# Altium footprint library R_D12p6_H6p9_S5_d0p5.PcbLib: 1 footprints
Each footprint in its own frame and in the unit in brackets; x right, y up, seen from the top. Pads: shape width x height; smd on the part's side, far side on the other; paste and mask are expansions set on the pad; w line width, h text height; cw(c..) or ccw(c..) is an arc to the next point about the centre after c.
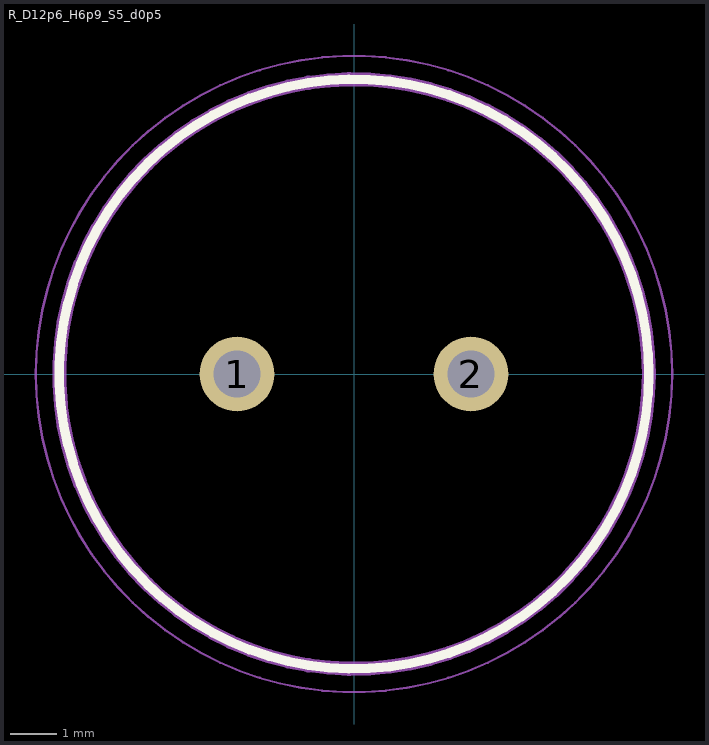
[diagram p0: the footprint, top view; thin cyan lines are the x and y axes]

## R_D12p6_H6p9_S5_d0p5 [mm] "Пьезоизлучатель PKM13EPY"
height 6.9
pads (2):
  round 1.6 hole 1: 1(-2.5,0) 2(2.5,0)
Top Overlay:
  circle w0.2: c0,0 r6.3
Board Shape:
  circle w0.3: c0,0 r6.3
Top Courtyard:
  circle w0.05: c0,0 r6.8
Top Designator:
  text ".Designator" at -7.618,-0.508 h1.52
3D body "R_D12p6_H6p9_S5_d0p5.STEP": height 6.9, standoff -2.5, extent -6.3,-6.3 6.3,6.3